# Altium schematic symbol library LM.SchLib: 1 symbol
Pins are listed as number, name and electrical type; pins without a type are passive.

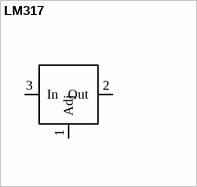
[diagram p0: symbol LM317]

## LM317
designator D, comment 0
LM317, Стабилизатор напряжения, линейный,регулируемый, 1,5А, TO220
footprint TO-220
pins: 1 Adj, 2 Out, 3 In